# Altium schematic symbol library TEP_243-AltiumLIB-Conn-TP-MH.SCHLIB: 48 symbols
Pins are listed as number, name and electrical type; pins without a type are passive.

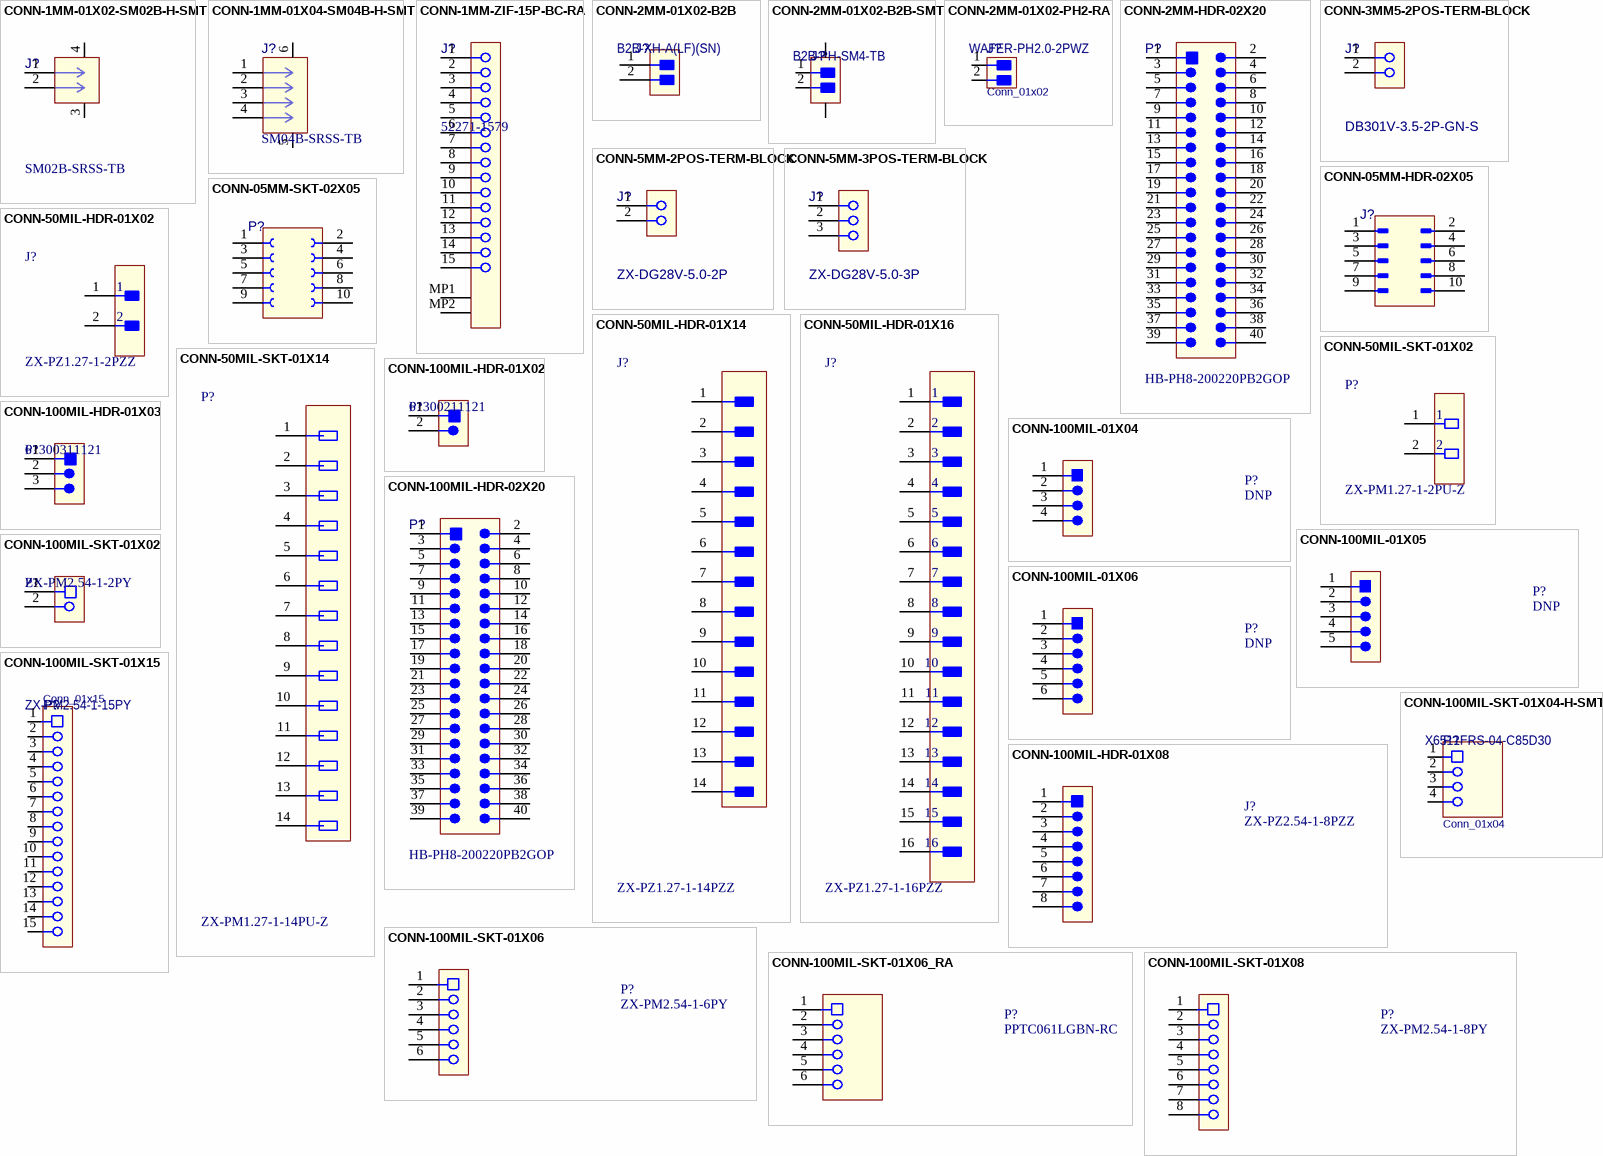
[diagram p0: symbols CONN-1MM-01X02-SM02B-H-SMT to CONN-100MIL-SKT-01X15]

## CONN-1MM-01X02-SM02B-H-SMT
designator J?, comment SM02B-SRSS-TB
CONN HEADER SMT R/A 2POS 1MM; Manufacturer 1: JST; Manufacturer Part Number 1: SM02B-SRSS-TB; Manufacturer 2: G-Switch; Manufacturer Part Number 2: GT-A1002WRS-102SBT01; Mounting Technology: SMT; Supplier 1: Digikey; Supplier 2: LSSC; Supplier Part Number 1: 455-SM02B-SRSS-TBCT-ND; Supplier Part Number 2: C41431902
footprint CONN_SM02B-SRSS-TB_JST
pins: 1, 2, 3, 4

## CONN-1MM-01X04-SM04B-H-SMT
designator J?, comment SM04B-SRSS-TB
CONN HEADER SMT R/A 4POS 1MM; Manufacturer 1: JST; Manufacturer Part Number 1: SM04B-SRSS-TB; Manufacturer 2: G-Switch; Manufacturer Part Number 2: GT-A1002WRS-104SBT01; Mounting Technology: SMT; Supplier 1: Digikey; Supplier 2: LSSC; Supplier Part Number 1: 455-SM04B-SRSS-TBCT-ND; Supplier Part Number 2: C41431904
footprint CONN_SM04B-SRSS-TB_JST
pins: 1, 2, 3, 4, 5, 6

## CONN-1MM-ZIF-15P-BC-RA
designator J?, comment 52271-1579
Conns. ZIF 1.0 mm Pitch, Right Angle, Bottom Contact, 15pos; Manufacturer 1: Molex; Mounting Technology: SMT; Manufacturer Part Number 1: 52271-1579; Supplier 1: Digikey; Supplier 2: LSSC; Supplier Part Number 1: WM10967CT-ND; Supplier Part Number 2: C7545783
footprint MOLX-52271-1579 (FPC Connector, 15-Leads, Right Angle, Pitch 1.0 mm, Mated Height 3.0 mm, SMT)
pins: 1, 2, 3, 4, 5, 6, 7, 8, 9, 10, 11, 12, 13, 14, 15, MP1, MP2

## CONN-2MM-01X02-B2B
designator J?, comment B2B-XH-A(LF)(SN)
Conn. 2 pins JST B2B TH Straight 2mm; Value: Conn_01x02 TH; Manufacturer 1: JST; Manufacturer Part Number 1: B2B-XH-A(LF)(SN); Mounting Technology: SMT; Supplier 1: LCSC; Supplier 2: Farnell; Supplier Part Number 1: C158012; Supplier Part Number 2: 1516276
footprint J_B2B-XH-A_LF_JST
pins: 1, 2

## CONN-2MM-01X02-B2B-SMT
designator J?, comment B2B-PH-SM4-TB
Conn. 2 pins JST B2B SMT Straight 2mm; Value: Conn_01x02 SMT; Code CEGEP: KPTSO08; Manufacturer 1: JST; Manufacturer Part Number 1: B2B-PH-SM4-TB; Mounting Technology: SMT; Supplier 1: LCSC; Supplier 2: Mouser; Supplier Part Number 1: C160352; Supplier Part Number 2: 306-B2BPHSM4TBLFSN
footprint J_B2B-PH-SM4-TB_JST (CONN HEADER SMD 2POS 2MM STRAIGHT)
pins: 1 Pin_1, 2 Pin_2, S1, S2

## CONN-2MM-01X02-PH2-RA
designator J?, comment WAFER-PH2.0-2PWZ  value Conn_01x02
Conn. 2 pins JST PH2; Manufacturer 1: XUNPU; Manufacturer 2: JST; Manufacturer Part Number 1: WAFER-PH2.0-2PWZ; Manufacturer Part Number 2: S2B-PH-K-S; Mounting Technology: TH; Supplier 1: LCSC; Supplier 2: Mouser; Supplier Part Number 1: C5359610; Supplier Part Number 2: 306-S2BPHKSLFSNPP
footprint J_JST_PH_2_TH (2mm 2Pin, TH, Right Angle, Wire to board)
pins: 1 Pin_1, 2 Pin_2

## CONN-2MM-HDR-02X20
designator P?, comment HB-PH8-200220PB2GOP
CONN HEADER 2x20P 2mm TH; Manufacturer 1: Hanbo Electronic; Manufacturer Part Number 1: HB-PH8-200220PB2GOP; Mounting Technology: TH; Supplier 2: LSSC; Supplier Part Number 2: C6332234
footprint CONN_HDR_2ROWS_40POS_2MM
pins: 1, 2, 3, 4, 5, 6, 7, 8, 9, 10, 11, 12, 13, 14, 15, 16, 17, 18, 19, 20, 21, 22, 23, 24, 25, 26, 27, 28, 29, 30, 31, 32, 33, 34, 35, 36, 37, 38, 39, 40

## CONN-3MM5-2POS-TERM-BLOCK
designator J?, comment DB301V-3.5-2P-GN-S
CONN TERM BLOCK 2POS 3.5mm pitch; Manufacturer 1: Dorabo; Supplier 1: LCSC; Supplier Part Number 1: C695629; Manufacturer Part Number 1: DB301V-3.5-2P-GN-S; Mounting Technology: TH
footprint CONN_TERM_BLOCK_2POS_3mm5 (3.50 mm Horizontal Entry Modular, 2p)
pins: 1 "USB Vcc [Red]", 2 "USB Data - [White]"

## CONN-5MM-2POS-TERM-BLOCK
designator J?, comment ZX-DG28V-5.0-2P
CONN TERM BLOCK 2POS 5mm pitch; Manufacturer 1: Megastar; Code CEGEP: CONWECO0002; Localisation: R13-B113; Supplier 1: LCSC; Supplier Part Number 1: C49022995; Manufacturer Part Number 1: ZX-DG28V-5.0-2P; Mounting Technology: TH; Manufacturer 2: Weidmüller - Phoenix Contact; Manufacturer Part Number 2: 1760510000 - 1890963
footprint CONN_TERM_BLOCK_2POS_5mm_Model1 (Terminal Block 2 positions Throught hole)
pins: 1 "USB Vcc [Red]", 2 "USB Data - [White]"

## CONN-5MM-3POS-TERM-BLOCK
designator J?, comment ZX-DG28V-5.0-3P
CONN TERM BLOCK 3POS 5mm pitch; Manufacturer 1: Megastar; Code CEGEP: CONWECO0003 / KCONWECO0030; Localisation: / R13-E102; Supplier 1: LCSC; Supplier Part Number 1: ZX-DG28V-5.0-3P; Manufacturer Part Number 1: ZX-DG28V-5.0-3P; Mounting Technology: TH; Manufacturer 2: Weco - Phoenix Contact; Manufacturer Part Number 2: 950-DS/03 - 1890976
footprint CONN_TERM_BLOCK_3POS_5mm_Model1 (Terminal Block 3 positions Throught hole)
pins: 1 "USB Vcc [Red]", 2 "USB Data - [White]", 3 "USB Data - [White]"

## CONN-05MM-HDR-02X05
designator J?, comment HC-PBB12NB(3.0)-10DS-0.5V-03  (value not drawn)
Connector Receptacle 2x5pos, 0,5mm; Manufacturer 1: Hirose; Manufacturer Part Number 1: DF12NB(3.0)-10DS-0.5V(51); Value: Conn_02x05; Code CEGEP: KPTSO011; Localisation: R13-E076; Manufacturer 2: HCTL; Manufacturer Part Number 2: HC-PBB12NB(3.0)-10DS-0.5V-03; Mounting Technology: SMT; Supplier 1: LCSC; Supplier 2: Digikey; Supplier Part Number 1: C2904118; Supplier Part Number 2: 26-DF12NB(3.0)-10DS-0.5V(51)CT-ND
footprint J_CONN_HDR_2ROW_10POS_0MM5 (CONN HIROSE DF12NB)
pins: 1, 2, 3, 4, 5, 6, 7, 8, 9, 10

## CONN-05MM-SKT-02X05
designator P?, comment HC-PBB12NB(3.0)-10DP-0.5V-03  (value not drawn)
CONN SOCKET 2x5pos, 0,5mm; Manufacturer 1: HCTL; Value: Conn_02x05; Manufacturer 2: Hirose; Manufacturer Part Number 1: HC-PBB12NB(3.0)-10DP-0.5V-03; Manufacturer Part Number 2: DF12NB(3.0)-10DP-0.5V(51); Mounting Technology: SMT; Supplier 1: LCSC; Supplier 2: Digikey; Supplier Part Number 1: C22359413; Supplier Part Number 2: 26-DF12NB(3.0)-10DP-0.5V(51)CT-ND
footprint P_CONN_HDR_2ROW_10POS_0MM5 (CONN HIROSE DF12NB)
pins: 1, 2, 3, 4, 5, 6, 7, 8, 9, 10

## CONN-50MIL-HDR-01X02
designator J?, comment ZX-PZ1.27-1-2PZZ
CONN HEADER 2POS 1.27mm SINGLE ROW TH; Manufacturer 1: Megastar; Code CEGEP: KCONDIV124; Localisation: R13-E100; Mounting Technology: TH; Supplier 1: LCSC; Supplier Part Number 1: C41370734; Manufacturer 2: Sullins; Manufacturer Part Number 1: ZX-PZ1.27-1-2PZZ; Manufacturer Part Number 2: GRPB021VWVN-RC
footprint J_CONN_HDR_1ROW_2POS_50MIL
pins: 1, 2

## CONN-50MIL-HDR-01X14
designator J?, comment ZX-PZ1.27-1-14PZZ
CONN HEADER 14POS 1.27mm SINGLE ROW TH; Manufacturer 1: Megastar; Code CEGEP: KCONDIV123; Localisation: R13-E099; Mounting Technology: TH; Supplier 1: LCSC; Supplier Part Number 1: C41370746; Manufacturer Part Number 1: ZX-PZ1.27-1-14PZZ; Manufacturer 2: Sullins; Manufacturer Part Number 2: GRPB141VWVN-RC
footprint J_CONN_HDR_1ROW_14POS_50MIL
pins: 1, 2, 3, 4, 5, 6, 7, 8, 9, 10, 11, 12, 13, 14

## CONN-50MIL-HDR-01X16
designator J?, comment ZX-PZ1.27-1-16PZZ
CONN HEADER 16POS 1.27mm SINGLE ROW TH; Manufacturer 1: Megastar; Mounting Technology: TH; Supplier 1: LCSC; Supplier Part Number 1: C41370748; Manufacturer 2: Sullins; Manufacturer Part Number 1: ZX-PZ1.27-1-16PZZ; Manufacturer Part Number 2: GRPB161VWVN-RC
footprint J_CONN_HDR_1ROW_16POS_50MIL
pins: 1, 2, 3, 4, 5, 6, 7, 8, 9, 10, 11, 12, 13, 14, 15, 16

## CONN-50MIL-SKT-01X02
designator P?, comment ZX-PM1.27-1-2PU-Z
CONN SOCKET 2POS 1.27mm SINGLE ROW TH; Manufacturer 1: Megastar; Code CEGEP: KCONDIV122; Localisation: R13-E095; Mounting Technology: TH; Supplier 1: LCSC; Supplier Part Number 1: C41370629; Manufacturer 2: Sullins; Manufacturer Part Number 1: ZX-PM1.27-1-2PU-Z
footprint P_CONN_SKT_1ROW_2POS_50MIL
pins: 1, 2

## CONN-50MIL-SKT-01X14
designator P?, comment ZX-PM1.27-1-14PU-Z
CONN SOCKET 14POS 1.27mm SINGLE ROW TH; Manufacturer 1: Megastar; Code CEGEP: KCONDIV121; Localisation: R13-E094; Mounting Technology: TH; Supplier 1: LCSC; Supplier Part Number 1: C41370641; Manufacturer Part Number 1: ZX-PM1.27-1-14PU-Z; Manufacturer 2: Sullins
footprint P_CONN_SKT_1ROW_14POS_50MIL
pins: 1, 2, 3, 4, 5, 6, 7, 8, 9, 10, 11, 12, 13, 14

## CONN-100MIL-01X04
designator P?, comment DNP  (no BOM)
Conn. Header 4pos 100mils; Manufacturer Part Number 1: tbd; Mounting Technology: TH
footprint P_CONN_HDR_1ROW_4POS_100MIL (Header, 1x4 Pins, 2.54mm Pitch)
pins: 1, 2, 3, 4

## CONN-100MIL-01X05
designator P?, comment DNP  (no BOM)
Conn. Header 5pos 100mils; Manufacturer Part Number 1: tbd; Mounting Technology: TH
footprint P_CONN_HDR_1ROW_5POS_100MIL (Header, 1x5 Pins, 2.54mm Pitch)
pins: 1, 2, 3, 4, 5

## CONN-100MIL-01X06
designator P?, comment DNP  (no BOM)
Conn. Header 6pos 100mils; Manufacturer Part Number 1: tbd; Mounting Technology: TH
footprint P_CONN_HDR_1ROW_6POS_100MIL (Header, 1x6 Pins, 2.54mm Pitch)
pins: 1, 2, 3, 4, 5, 6

## CONN-100MIL-HDR-01X02
designator P?, comment 61300211121
CONN HEADER 2POS 100MIL; Manufacturer 1: Megastar; Manufacturer Part Number 1: ZX-PZ2.54-1-2PZZ; Mounting Technology: TH; Supplier 1: LCSC; Supplier Part Number 1: C7501260; Manufacturer 2: Würth Elektronik; Manufacturer Part Number 2: 61300211121
footprint CONN_HDR_2POS_100MILS_TH (Pin Header, pitch 2.54 mm, THT, Vertical, single row, 2p)
pins: 1, 2

## CONN-100MIL-HDR-01X03
designator P?, comment 61300311121
CONN HEADER 3pins single row, 100 mils TH; Manufacturer 1: Würth Elektronik; Manufacturer Part Number 1: 61300311121; Mounting Technology: TH; Supplier 1: Digikey; Supplier Part Number 1: 732-5316-ND
footprint CONN_HDR_3POS_100MILS_TH (Pin Header, pitch 2.54 mm, THT, Vertical, single row, 3p)
pins: 1, 2, 3

## CONN-100MIL-HDR-01X08
designator J?, comment ZX-PZ2.54-1-8PZZ
CONN Header 8pos 100mils; Manufacturer 1: Megastar; Mounting Technology: TH; Manufacturer Part Number 1: ZX-PZ2.54-1-8PZZ; Supplier 1: LCSC; Supplier Part Number 1: C7501266
footprint CONN_HDR_01X08_100MIL (SQ Post Header, 1x8 Pins, Vertical, 2.54mm Pitch, Male)
pins: 1, 2, 3, 4, 5, 6, 7, 8

## CONN-100MIL-HDR-02X20
designator P?, comment HB-PH8-200220PB2GOP
CONN HEADER 2x20P, 2mm TH; Manufacturer 1: Megastar; Manufacturer Part Number 1: ZX-PZ1.0-2-20PZZ; Mounting Technology: TH; Supplier 1: LCSC; Supplier Part Number 1: C41370695
footprint CONN_HDR_2ROWS_40POS_100MIL
pins: 1, 2, 3, 4, 5, 6, 7, 8, 9, 10, 11, 12, 13, 14, 15, 16, 17, 18, 19, 20, 21, 22, 23, 24, 25, 26, 27, 28, 29, 30, 31, 32, 33, 34, 35, 36, 37, 38, 39, 40

## CONN-100MIL-SKT-01X02
designator P?, comment ZX-PM2.54-1-2PY
CONN SOCKET 2pins single row , 100mils TH; Manufacturer 1: Megastar; Code CEGEP: KCONDIV109 / KCONDIV130; Localisation: R13-C051; Manufacturer Part Number 1: ZX-PM2.54-1-2PY; Mounting Technology: TH; Supplier 1: LCSC; Supplier Part Number 1: C7499322; Manufacturer 2: Würth Elektronik; Manufacturer Part Number 2: 61300211121
footprint CONN_SKT_2POS_100MILS_TH (Receptacle, pitch 2.54 mm, THT, Vertical, single row, 2p)
pins: 1, 2

## CONN-100MIL-SKT-01X04-H-SMT
designator P?, comment X6511FRS-04-C85D30  value Conn_01x04
CONN SOCKET 4 pins; Manufacturer 1: XKB Connection; Manufacturer 2: Harwin Inc.; Manufacturer Part Number 1: X6511FRS-04-C85D30; Manufacturer Part Number 2: M20-7910442R; Mounting Technology: SMT; Supplier 1: Digikey; Supplier 2: LCSC; Supplier Part Number 1: 952-3197-1-ND; Supplier Part Number 2: C5142237
footprint P_XKB_X6511FRS-04 (2.54mm Single Row 4Pin, Surface Mount, Right Angle Female Headers, 8.5mm)
pins: 1 Pin_1, 2 Pin_2, 3 Pin_3, 4 Pin_4

## CONN-100MIL-SKT-01X06
designator P?, comment ZX-PM2.54-1-6PY
CONN SOCKET 6pos 100mils; Manufacturer 1: Megastar; Mounting Technology: TH; Manufacturer Part Number 1: ZX-PM2.54-1-6PY; Supplier 1: LCSC; Supplier Part Number 1: C7499326
footprint CONN_SKT_01X06_100MIL (SQ Post Socket, 1x6 Pins, Vertical, 2.54mm Pitch, Female)
pins: 1, 2, 3, 4, 5, 6

## CONN-100MIL-SKT-01X06_RA
designator P?, comment PPTC061LGBN-RC
CONN SOCKET 6pos 100mils Right Angle; Manufacturer 1: Megastar; Manufacturer Part Number 1: ZX-PM2.54-1-6PWZ; Mounting Technology: TH; Manufacturer 2: Sullins; Manufacturer Part Number 2: PPTC061LGBN-RC; Supplier 1: LCSC; Supplier Part Number 1: C49326178; Manufacturer 3: Samtec; Manufacturer Part Number 3: SSW-106-02-T-S-RA; Supplier 2: Digikey; Supplier Part Number 2: S5442-ND
footprint P_CONN_HDR_1ROW_6POS_RA_100MIL (Header, 1x6 Pins, Right Angle, 2.54mm Pitch, Female)
pins: 1, 2, 3, 4, 5, 6

## CONN-100MIL-SKT-01X08
designator P?, comment ZX-PM2.54-1-8PY
CONN SOCKET 8pos 100mils; Manufacturer 1: Megastar; Mounting Technology: TH; Manufacturer Part Number 1: ZX-PM2.54-1-8PY; Supplier 1: LCSC; Supplier Part Number 1: C7499328
footprint CONN_SKT_01X08_100MIL (SQ Post Socket, 1x8 Pins, Vertical, 2.54mm Pitch, Female)
pins: 1, 2, 3, 4, 5, 6, 7, 8

## CONN-100MIL-SKT-01X15
designator P?, comment ZX-PM2.54-1-15PY  value Conn_01x15
CONN SOCKET 15 pins; Manufacturer 1: Megastar; Manufacturer 2: Bossie; Manufacturer 3: Samtec; Manufacturer Part Number 1: ZX-PM2.54-1-15PY; Manufacturer Part Number 2: BX-PM2.54-1-15PY; Manufacturer Part Number 3: SSW-115-01-T-S; Mounting Technology: TH; Supplier 1: Digikey; Supplier Part Number 1: SAM1213-15-ND
footprint P_CONN_HDR_1ROW_15POS_100MIL (2.54mm Single Row 15Pin, TH, Female Headers)
pins: 1 Pin_1, 2 Pin_2, 3 Pin_3, 4 Pin_4, 5 Pin_5, 6 Pin_6, 7 Pin_7, 8 Pin_8, 9 Pin_9, 10 Pin_10, 11 Pin_11, 12 Pin_12, 13 Pin_13, 14 Pin_14, 15 Pin_15

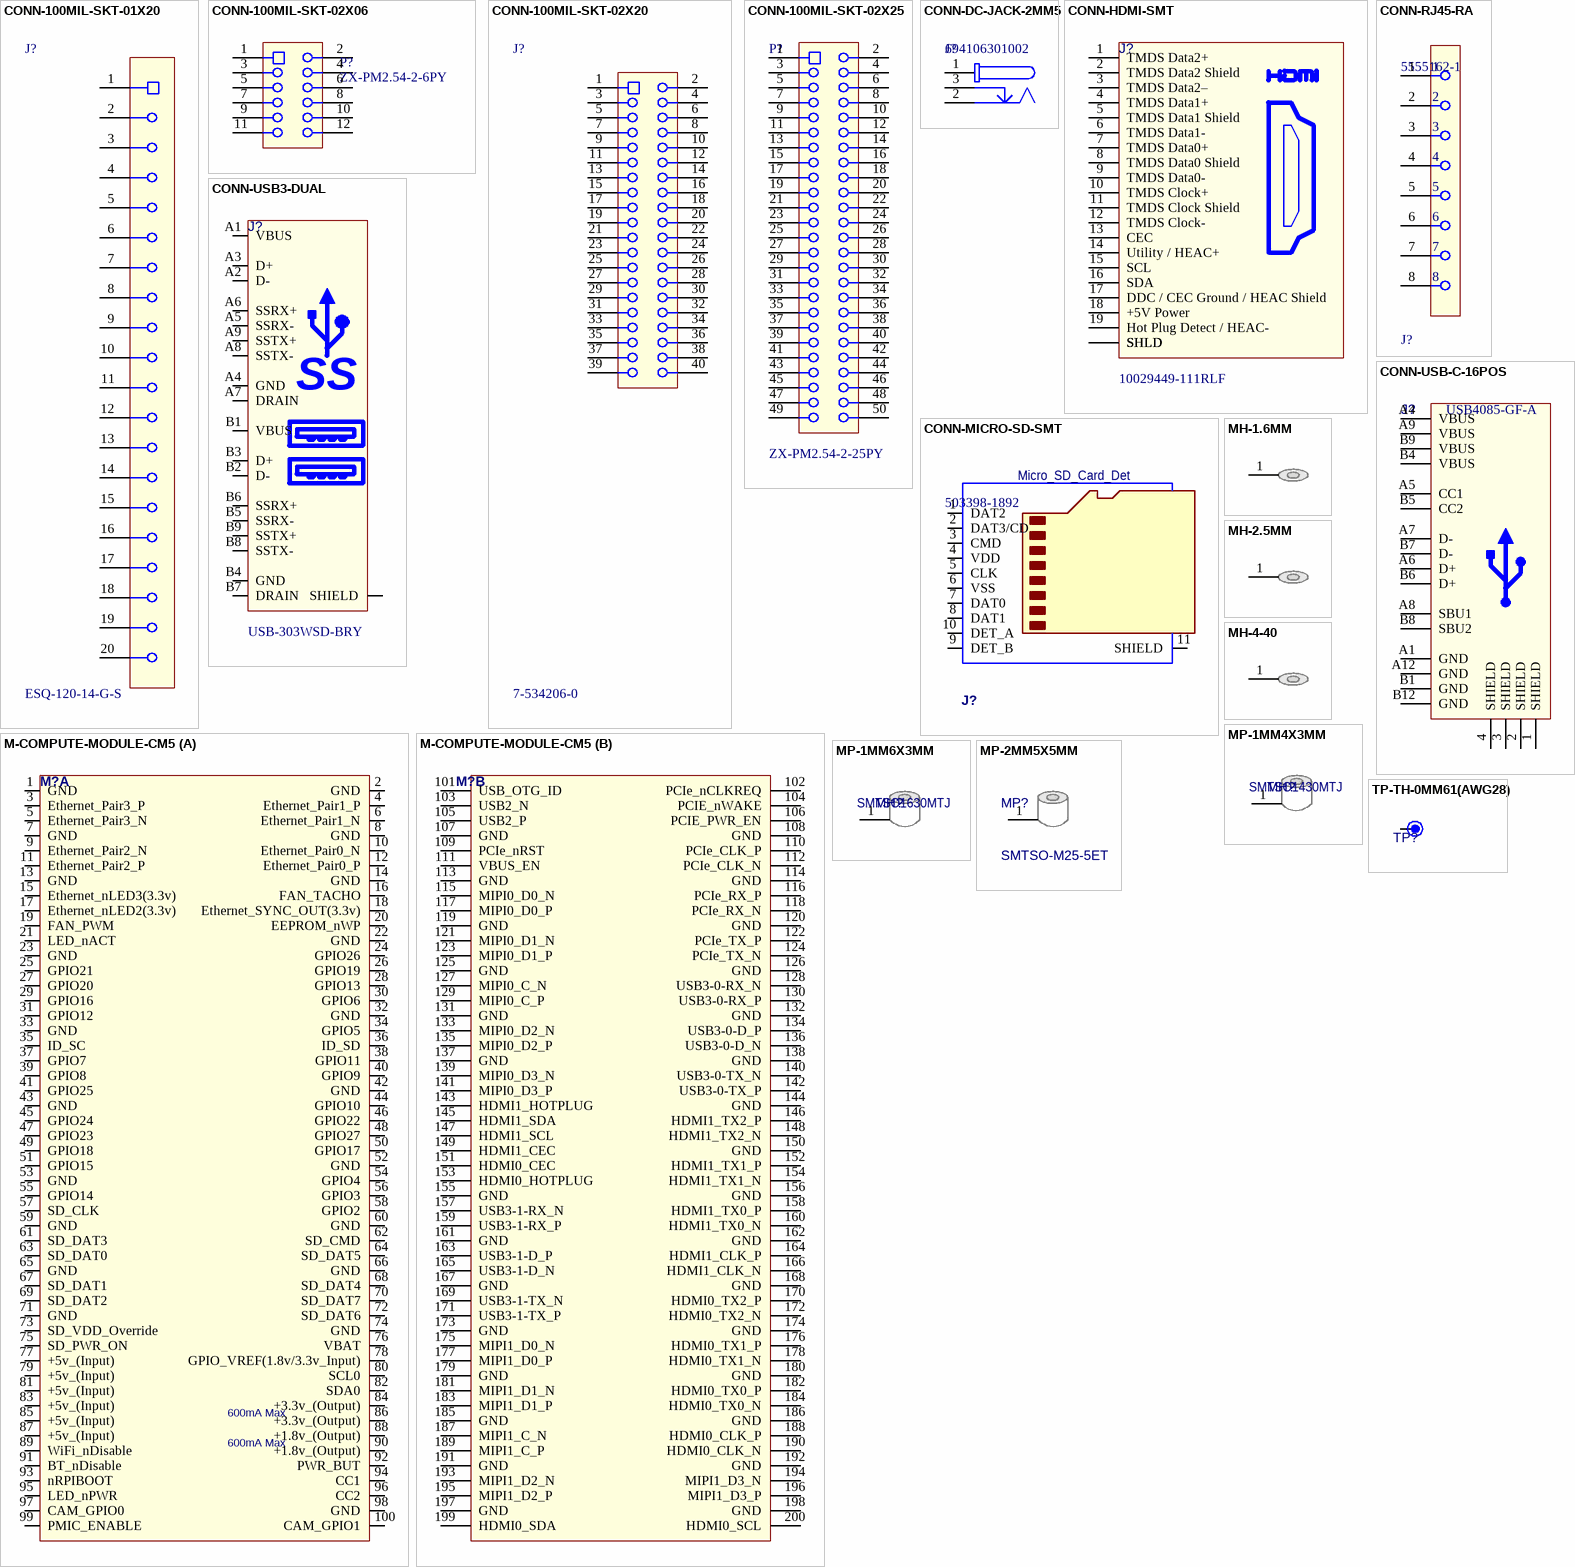
[diagram p1: symbols CONN-100MIL-SKT-01X20 to TP-TH-0MM61(AWG28)]

## CONN-100MIL-SKT-01X20
designator J?, comment ESQ-120-14-G-S
CONN SOCKET 20POS 2.54MM; Manufacturer 1: Megastar; Manufacturer Part Number 1: ZX-PM2.54-1-20PY; Code CEGEP: KCONDIV0053 / KCONDIV125; Localisation: R13-B035 / R13-D104; Mounting Technology: TH; Supplier 1: LCSC; Supplier Part Number 1: C7499336
footprint CONN-SKT-20POS-100MIL
pins: 1, 2, 3, 4, 5, 6, 7, 8, 9, 10, 11, 12, 13, 14, 15, 16, 17, 18, 19, 20

## CONN-100MIL-SKT-02X06
designator P?, comment ZX-PM2.54-2-6PY
CONN SOCKET 2x6POS, Dual row 100MIL; Manufacturer 1: Megastar; Mounting Technology: TH
footprint CONN_SKT_02X06_100MIL (SQ Post Socket, 2x6 Pins, Vertical, 2.54mm Pitch, Female)
pins: 1, 2, 3, 4, 5, 6, 7, 8, 9, 10, 11, 12

## CONN-100MIL-SKT-02X20
designator J?, comment 7-534206-0
CONN SOCKET 2x20POS 2.54mm; Manufacturer 1: Megastar; Manufacturer Part Number 1: ZX-PM2.54-2-20PY; Code CEGEP: CON40; Mounting Technology: TH; Supplier 1: LCSC; Supplier Part Number 1: C7499354; Manufacturer 2: Sullins; Manufacturer 3: TE Connectivity; Manufacturer Part Number 2: PPTC202LFBN-RC; Manufacturer Part Number 3: 7-534206-0; Supplier 2: Digikey; Supplier 3: S6104-ND
footprint CONN_Receptacle_2x20pos_100mil (Connector Receptacle 2 rows  TH)
pins: 1, 2, 3, 4, 5, 6, 7, 8, 9, 10, 11, 12, 13, 14, 15, 16, 17, 18, 19, 20, 21, 22, 23, 24, 25, 26, 27, 28, 29, 30, 31, 32, 33, 34, 35, 36, 37, 38, 39, 40

## CONN-100MIL-SKT-02X25
designator P?, comment ZX-PM2.54-2-25PY
CONN SOCKET 2x25POS, Dual row 100MIL; Manufacturer 1: Megastar; Code CEGEP: KCONDIV0105 / KCONDIV126; Localisation: R13-D074; Manufacturer Part Number 1: ZX-PM2.54-2-25PY; Mounting Technology: TH; Manufacturer 2: Sullins; Manufacturer Part Number 2: SFH11-PBPC-D25-ST-BK; Supplier 1: LCSC; Supplier 2: Digikey; Supplier Part Number 1: C7499355; Supplier Part Number 2: S9201-ND
footprint CONN-HEAD02X25-100MIL
pins: 1, 2, 3, 4, 5, 6, 7, 8, 9, 10, 11, 12, 13, 14, 15, 16, 17, 18, 19, 20, 21, 22, 23, 24, 25, 26, 27, 28, 29, 30, 31, 32, 33, 34, 35, 36, 37, 38, 39, 40, 41, 42, 43, 44, 45, 46, 47, 48, 49, 50

## CONN-DC-JACK-2MM5
designator J?, comment 694106301002
DC Barrel Connector 2.5mm; Manufacturer 1: XKB Connection; Manufacturer Part Number 1: DC-005-5A-2.5; Mounting Technology: TH; Supplier 1: LCSC; Supplier Part Number 1: C381115
footprint CONN_DC-JACK_RA (DC Power Jack Right Angle)
pins: 1, 2, 3

## CONN-HDMI-SMT
designator J?, comment 10029449-111RLF
HDMI Type A, 19 Positions, 0.5 mm Pitch; Manufacturer 1: Amphenol ICC / FCI; Manufacturer Part Number 1: 10029449-111RLF; Supplier 1: Digikey; Supplier Part Number 1: 609-4614-1-ND; Mounting Technology: SMT; Supplier 2: LSSC; Supplier Part Number 2: C427307
footprint CONN_HDMI_05P_19SMD (HDMI Receptacle Connector 19 Position Surface Mount, Right Angle Body 15x9.5mm, Pitch 0.5mm)
pins: 1 TMDS Data2+, 2 TMDS Data2 Shield, 3 TMDS Data2–, 4 TMDS Data1+, 5 TMDS Data1 Shield, 6 TMDS Data1-, 7 TMDS Data0+, 8 TMDS Data0 Shield, 9 TMDS Data0-, 10 TMDS Clock+, 11 TMDS Clock Shield, 12 TMDS Clock-, 13 CEC, 14 Utility / HEAC+, 15 SCL, 16 SDA, 17 DDC / CEC Ground / HEAC Shield, 18 +5V Power, 19 Hot Plug Detect / HEAC-, 20 SHLD, 21 SHLD, 22 SHLD, 23 SHLD

## CONN-MICRO-SD-SMT
designator J?, comment 503398-1892  value Micro_SD_Card_Det
CONN MICRO SD CARD R/A SMD; Manufacturer 1: Molex; Supplier 1: Digikey; Manufacturer Part Number 1: 503398-1892; Mounting Technology: SMT; Supplier 2: LSSC; Supplier Part Number 1: WM11190CT-ND; Supplier Part Number 2: C428492
footprint SDCARD_MOLEX_503398-1892
pins: 1 DAT2, 2 DAT3/CD, 3 CMD, 4 VDD, 5 CLK, 6 VSS, 7 DAT0, 8 DAT1, 9 DET_B, 10 DET_A, 11 SHIELD

## CONN-RJ45-RA
designator J?, comment 5555162-1
CONN MOD JACK 8P8C R/A UNSHLD TH; Manufacturer 1: TE Connectivity; Manufacturer Part Number 1: 5555162-1; Mounting Technology: TH; Supplier 1: Digikey; Supplier Part Number 1: A31419-ND
footprint CONN_RJ45_TH
pins: 1, 2, 3, 4, 5, 6, 7, 8

## CONN-USB3-DUAL
designator J?, comment USB-303WSD-BRY
CONN USB3.0 RCPT TYPE A STACK R/A; Manufacturer 1: XUNPU; Manufacturer Part Number 1: USB-303WSD-BRY; Manufacturer 2: Würth Elektronik; Manufacturer Part Number 2: 692141030100; Mounting Technology: TH; Supplier 1: LCSC; Supplier 2: Digikey; Supplier Part Number 1: C2895028; Supplier Part Number 2: 732-3156-ND
footprint CONN_USB3_TypeA_Stacked_TH (USB 3.0 Type A Stacked 692141030100)
pins: A1 VBUS, A2 D-, A3 D+, A4 GND, A5 SSRX-, A6 SSRX+, A7 DRAIN, A8 SSTX-, A9 SSTX+, B1 VBUS, B2 D-, B3 D+, B4 GND, B5 SSRX-, B6 SSRX+, B7 DRAIN, B8 SSTX-, B9 SSTX+, Shell SHIELD
text: SS

## CONN-USB-C-16POS
designator J?, comment USB4085-GF-A
CONN RCPT USB2.0 TYPE C RA - TH; Manufacturer 1: Global Connector Technology; Code CEGEP: ? (R13-B182); Manufacturer Part Number 1: USB4085-GF-A; Mounting Technology: TH; Supplier 1: LCSC; Supplier 2: Digikey; Supplier Part Number 1: C7095263; Supplier Part Number 2: 2073-USB4085-GF-ACT-ND
footprint FP-USB4085-GF-A-MFG
pins: 1 SHIELD, 2 SHIELD, 3 SHIELD, 4 SHIELD, A1 GND, A4 VBUS, A5 CC1, A6 D+, A7 D-, A8 SBU1, A9 VBUS, A12 GND, B1 GND, B4 VBUS, B5 CC2, B6 D+, B7 D-, B8 SBU2, B9 VBUS, B12 GND

## M-COMPUTE-MODULE-CM5
designator M?, comment 10164227-1001A1RLF  (value not drawn)
ComputeModule5-CM5; Manufacturer 1: Amphenol; Manufacturer Part Number 1: 10164227-1001A1RLF; Manufacturer 2: Hirose; Manufacturer Part Number 2: DF40C-100DP-0.4V(58); Mounting Technology: SMT; Supplier 1: Digikey; Supplier Part Number 1: 609-10164227-1001A1RLFCT-ND
footprint Raspberry-Pi-5-Compute-Module
part A pins: 1 GND, 2 GND, 3 Ethernet_Pair3_P, 4 Ethernet_Pair1_P, 5 Ethernet_Pair3_N, 6 Ethernet_Pair1_N, 7 GND, 8 GND, 9 Ethernet_Pair2_N, 10 Ethernet_Pair0_N, 11 Ethernet_Pair2_P, 12 Ethernet_Pair0_P, 13 GND, 14 GND, 15 Ethernet_nLED3(3.3v), 16 FAN_TACHO, 17 Ethernet_nLED2(3.3v), 18 Ethernet_SYNC_OUT(3.3v), 19 FAN_PWM, 20 EEPROM_nWP, 21 LED_nACT, 22 GND, 23 GND, 24 GPIO26, 25 GPIO21, 26 GPIO19, 27 GPIO20, 28 GPIO13, 29 GPIO16, 30 GPIO6, 31 GPIO12, 32 GND, 33 GND, 34 GPIO5, 35 ID_SC, 36 ID_SD, 37 GPIO7, 38 GPIO11, 39 GPIO8, 40 GPIO9, 41 GPIO25, 42 GND, 43 GND, 44 GPIO10, 45 GPIO24, 46 GPIO22, 47 GPIO23, 48 GPIO27, 49 GPIO18, 50 GPIO17, 51 GPIO15, 52 GND, 53 GND, 54 GPIO4, 55 GPIO14, 56 GPIO3, 57 SD_CLK, 58 GPIO2, 59 GND, 60 GND, 61 SD_DAT3, 62 SD_CMD, 63 SD_DAT0, 64 SD_DAT5, 65 GND, 66 GND, 67 SD_DAT1, 68 SD_DAT4, 69 SD_DAT2, 70 SD_DAT7, 71 GND, 72 SD_DAT6, 73 SD_VDD_Override, 74 GND, 75 SD_PWR_ON, 76 VBAT, 77 +5v_(Input), 78 GPIO_VREF(1.8v/3.3v_Input), 79 +5v_(Input), 80 SCL0, 81 +5v_(Input), 82 SDA0, 83 +5v_(Input), 84 +3.3v_(Output), 85 +5v_(Input), 86 +3.3v_(Output), 87 +5v_(Input), 88 +1.8v_(Output), 89 WiFi_nDisable, 90 +1.8v_(Output), 91 BT_nDisable, 92 PWR_BUT, 93 nRPIBOOT, 94 CC1, 95 LED_nPWR, 96 CC2, 97 CAM_GPIO0, 98 GND, 99 PMIC_ENABLE, 100 CAM_GPIO1
part B pins: 101 USB_OTG_ID, 102 PCIe_nCLKREQ, 103 USB2_N, 104 PCIE_nWAKE, 105 USB2_P, 106 PCIE_PWR_EN, 107 GND, 108 GND, 109 PCIe_nRST, 110 PCIe_CLK_P, 111 VBUS_EN, 112 PCIe_CLK_N, 113 GND, 114 GND, 115 MIPI0_D0_N, 116 PCIe_RX_P, 117 MIPI0_D0_P, 118 PCIe_RX_N, 119 GND, 120 GND, 121 MIPI0_D1_N, 122 PCIe_TX_P, 123 MIPI0_D1_P, 124 PCIe_TX_N, 125 GND, 126 GND, 127 MIPI0_C_N, 128 USB3-0-RX_N, 129 MIPI0_C_P, 130 USB3-0-RX_P, 131 GND, 132 GND, 133 MIPI0_D2_N, 134 USB3-0-D_P, 135 MIPI0_D2_P, 136 USB3-0-D_N, 137 GND, 138 GND, 139 MIPI0_D3_N, 140 USB3-0-TX_N, 141 MIPI0_D3_P, 142 USB3-0-TX_P, 143 HDMI1_HOTPLUG, 144 GND, 145 HDMI1_SDA, 146 HDMI1_TX2_P, 147 HDMI1_SCL, 148 HDMI1_TX2_N, 149 HDMI1_CEC, 150 GND, 151 HDMI0_CEC, 152 HDMI1_TX1_P, 153 HDMI0_HOTPLUG, 154 HDMI1_TX1_N, 155 GND, 156 GND, 157 USB3-1-RX_N, 158 HDMI1_TX0_P, 159 USB3-1-RX_P, 160 HDMI1_TX0_N, 161 GND, 162 GND, 163 USB3-1-D_P, 164 HDMI1_CLK_P, 165 USB3-1-D_N, 166 HDMI1_CLK_N, 167 GND, 168 GND, 169 USB3-1-TX_N, 170 HDMI0_TX2_P, 171 USB3-1-TX_P, 172 HDMI0_TX2_N, 173 GND, 174 GND, 175 MIPI1_D0_N, 176 HDMI0_TX1_P, 177 MIPI1_D0_P, 178 HDMI0_TX1_N, 179 GND, 180 GND, 181 MIPI1_D1_N, 182 HDMI0_TX0_P, 183 MIPI1_D1_P, 184 HDMI0_TX0_N, 185 GND, 186 GND, 187 MIPI1_C_N, 188 HDMI0_CLK_P, 189 MIPI1_C_P, 190 HDMI0_CLK_N, 191 GND, 192 GND, 193 MIPI1_D2_N, 194 MIPI1_D3_N, 195 MIPI1_D2_P, 196 MIPI1_D3_P, 197 GND, 198 GND, 199 HDMI0_SDA, 200 HDMI0_SCL
part A text: 600mA Max

## MH-1.6MM
designator MH?, comment DNP  (value not drawn)  (no BOM)
Mounting Hole 1.6mm; Manufacturer Part Number 1: DNP; Value: DNP; Supplier Part Number 1: N/A
footprint MP_M-Hole_M1.6 (Monting Hole M1.6)
pins: 1 (power)

## MH-2.5MM
designator MH?, comment DNP  (value not drawn)  (no BOM)
Mounting Hole 2.5mm w/ Flat Washer; Manufacturer Part Number 1: DNP; Value: DNP; Supplier Part Number 1: N/A
footprint MP_M-Hole_M2.5x0.45mm_LOOSE-FIT (Monting Hole M2.5x0.45mm LOOSE Fit)
footprint MP_M-Hole_M2.5x0.45mm_TIGHT-FIT (Monting Hole M2.5x0.45mm Tight Fit)
pins: 1 (power)

## MH-4-40
designator MH?, comment DNP  (value not drawn)  (no BOM)
Mounting Hole #4-40 w/ Flat Washer; Manufacturer Part Number 1: DNP; Value: DNP; Supplier Part Number 1: N/A
footprint MP_M-Hole_#4-40_LOOSE-FIT (Monting Hole #4-40 Loose Fit)
pins: 1 (power)

## MP-1MM4X3MM
designator MH?, comment SMTSO1430MTJ
Mounting Standoff Threaded 1.4mm, stack height 3mm, SMT; Manufacturer 1: Sinhoo; Manufacturer Part Number 1: SMTSO1430MTJ; Mounting Technology: SMT; Supplier 1: LCSC; Supplier Part Number 1: C2915624
footprint MP_Standoff_M1.4x3mm_SMT (Spacer SMT 3mm M1.4)
pins: 1 (power)

## MP-1MM6X3MM
designator MH?, comment SMTSO1630MTJ
Mounting Standoff Threaded 1.6mm, stack height 3mm, SMT; Manufacturer 1: Sinhoo; Code CEGEP: KPTSO10; Manufacturer Part Number 1: SMTSO1630MTJ; Mounting Technology: SMT
footprint MP_Standoff_M1.4x3mm_SMT (Spacer SMT 3mm M1.4)
pins: 1 (power)

## MP-2MM5X5MM
designator MP?, comment SMTSO-M25-5ET
Mounting Standoff Threaded Standoff M2.5, 5mm SMT; Manufacturer 1: PennEngineering; Manufacturer Part Number 1: SMTSO-M25-5ET; Mounting Technology: SMT
footprint MP_Standoff_M2.5x5mm_SMT (Spacer SMT 5mm M2.5)
pins: 1 (power)

## TP-TH-0MM61(AWG28)
designator TP?, comment DNP  (value not drawn)  (no BOM)
Pad TH 0.61mm diameter (AWG28); Value: DNP; Manufacturer Part Number 1: DNP; Supplier Part Number 1: N/A; Supplier 1: N/A
footprint TP_TH061 (Test point hole 0.61mm diameter (AWG28))
pins: 1